# Altium footprint library footprints.PcbLib: 5 footprints
Each footprint in its own frame and in the unit in brackets; x right, y up, seen from the top. Pads: shape width x height; smd on the part's side, far side on the other; paste and mask are expansions set on the pad; w line width, h text height; cw(c..) or ccw(c..) is an arc to the next point about the centre after c.
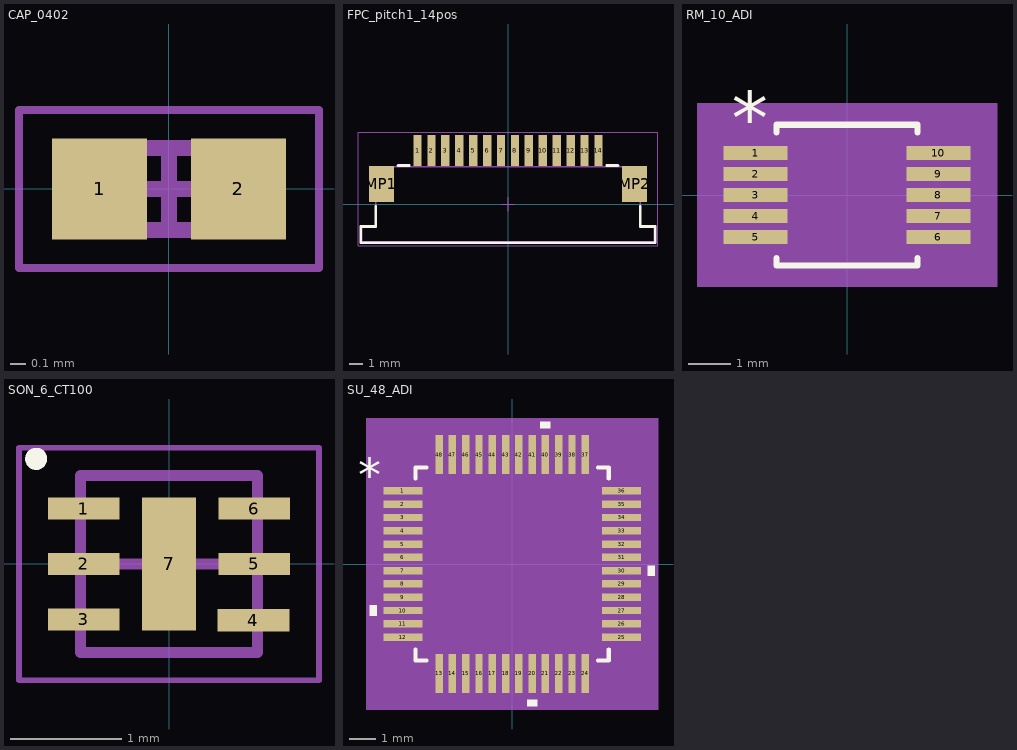
[diagram p0: the footprints below, top view; thin cyan lines are the x and y axes]

## CAP_0402 [mm] "Chip Capacitor, 2-Leads, Body 1.02x0.51mm, IPC Medium Density"
height 0.52
pads (2):
  rect 0.6x0.64 smd: 1(-0.44,0) 2(0.44,0)
Mechanical 13:
  lines w0.1: -0.515,-0.26 -0.515,0.26 0.515,0.26 0.515,-0.26 -0.515,-0.26
Mechanical 15:
  lines w0.05: -0.95,-0.5 -0.95,0.5 0.95,0.5 0.95,-0.5 -0.95,-0.5
  lines w0.1: -0.26,0 0.26,0 ; 0,-0.26 0,0.26
3D body "0402 cap.STEP": height 0.52, standoff 0, extent -0.5,-0.262 0.5,0.262

## FPC_pitch1_14pos [mm]
height 3.15
pads (16):
  rect 0.6x2.2 smd: 1(-6.5,3.85) 2(-5.5,3.85) 3(-4.5,3.85) 4(-3.5,3.85) 5(-2.5,3.85) 6(-1.5,3.85) 7(-0.5,3.85) 8(0.5,3.85) 9(1.5,3.85) 10(2.5,3.85) 11(3.5,3.85) 12(4.5,3.85) 13(5.5,3.85) 14(6.5,3.85)
  rect 1.8x2.6 smd: MP1(-9.1,1.45) MP2(9.1,1.45)
Top Overlay:
  lines w0.2: -9.5,-0.15 -9.5,-1.6 -10.575,-1.6 -10.575,-2.775 10.575,-2.775 10.575,-1.6 9.5,-1.6 9.5,-0.15 ; -7.9,2.775 -7.1,2.775 ; 7.1,2.775 7.9,2.775
Mechanical 13:
  lines w0.1: -10.5,-2.7 10.5,-2.7 10.5,-1.6 9.5,-1.6 9.5,2.7 -9.5,2.7 -9.5,-1.6 -10.5,-1.6 -10.5,-2.7
Mechanical 15:
  lines w0.05: -0.5,0 0.5,0 ; 0,-0.5 0,0.5 ; -10.775,-2.975 -10.775,5.15 10.775,5.15 10.775,-2.975 -10.775,-2.975
3D body "68611414122.stp": height 3.02, standoff 0.02, extent -10.5,-2.7 10.5,4.4

## RM_10_ADI [mil]
pads (10):
  rect 60x13 smd paste+0 mask+0: 1(-85.5,39.37) 2(-85.5,19.68) 3(-85.5,0) 4(-85.5,-19.68) 5(-85.5,-39.37) 6(85.5,-39.37) 7(85.5,-19.68) 8(85.5,0) 9(85.5,19.68) 10(85.5,39.37)
Top Overlay:
  lines w6: -66,-58.97 -66,-66 66,-66 66,-58.97 ; -66,58.97 -66,66 66,66 66,58.97
  text "*" at -108,47.37 h50
Mechanical 5:
  region: 140.5,-86 -140.5,-86 -140.5,86 140.5,86
Mechanical 13:
  lines w0: -12,61 ccw(c0,61) 12,61
  lines w1: -101.5,-45.87 -61,-45.87 -61,-32.87 -101.5,-32.87 -101.5,-45.87 ; -101.5,-26.18 -61,-26.18 -61,-13.19 -101.5,-13.19 -101.5,-26.18 ; -101.5,-6.5 -61,-6.5 -61,6.5 -101.5,6.5 -101.5,-6.5 ; -101.5,13.19 -61,13.19 -61,26.18 -101.5,26.18 -101.5,13.19 ; -101.5,32.87 -61,32.87 -61,45.87 -101.5,45.87 -101.5,32.87 ; -61,-61 -61,61 61,61 61,-61 -61,-61 ; 61,-45.87 101.5,-45.87 101.5,-32.87 61,-32.87 61,-45.87 ; 61,-26.18 101.5,-26.18 101.5,-13.19 61,-13.19 61,-26.18 ; 61,-6.5 101.5,-6.5 101.5,6.5 61,6.5 61,-6.5 ; 61,13.19 101.5,13.19 101.5,26.18 61,26.18 61,13.19 ; 61,32.87 101.5,32.87 101.5,45.87 61,45.87 61,32.87
  text "*" at -58.5,8 h50
Mechanical 15:
  region: -71,-55.87 -125.5,-55.87 -125.5,55.87 -71,55.87 -71,71 71,71 71,55.87 125.5,55.87 125.5,-55.87 71,-55.87 71,-71 -71,-71
  lines w6: -125.5,-55.87 -71,-55.87 -71,-71 71,-71 71,-55.87 125.5,-55.87 125.5,55.87 71,55.87 71,71 -71,71 -71,55.87 -125.5,55.87 -125.5,-55.87
3D body "RM_10_ADI.step": height 43.11, standoff 0, extent -101.5,-60.98 101.5,60.98

## SON_6_CT100 [mm] "SON, 6-Leads, Body 1.50x1.50mm, Pitch 0.50mm, Thermal Pad 1.20x0.49mm, IPC Medium Density"
height 0.5
pads (7):
  rect 0.65x0.2 smd mask+0.076: 1(-0.77,0.5) 2(-0.77,0) 3(-0.77,-0.5) 4(0.762,-0.508) 5(0.77,0) 6(0.77,0.5)
  rect 0.49x1.2 smd mask+0.076: 7(0,0)
Top Overlay:
  circle w0.1: c-1.2,0.95 r0.05
Mechanical 13:
  lines w0.1: -0.8,-0.8 0.8,-0.8 0.8,0.8 -0.8,0.8 -0.8,-0.8
Mechanical 15:
  lines w0.05: -1.355,-1.05 1.355,-1.05 1.355,1.05 -1.355,1.05 -1.355,-1.05
  lines w0.1: -0.5,0 0.5,0 ; 0,-0.5 0,0.5
3D body: height 0.5, standoff 0.05, extent -0.8,-0.8 0.8,0.8

## SU_48_ADI [mil]
pads (48):
  rect 58x11 smd paste+0 mask+0: 1(-162,108.27) 2(-162,88.58) 3(-162,68.9) 4(-162,49.21) 5(-162,29.53) 6(-162,9.84) 7(-162,-9.84) 8(-162,-29.53) 9(-162,-49.21) 10(-162,-68.9) 11(-162,-88.58) 12(-162,-108.27) 25(162,-108.27) 26(162,-88.58) 27(162,-68.9) 28(162,-49.21) 29(162,-29.53) 30(162,-9.84) 31(162,9.84) 32(162,29.53) 33(162,49.21) 34(162,68.9) 35(162,88.58) 36(162,108.27)
  rect 11x58 smd paste+0 mask+0: 13(-108.27,-162) 14(-88.58,-162) 15(-68.9,-162) 16(-49.21,-162) 17(-29.53,-162) 18(-9.84,-162) 19(9.84,-162) 20(29.53,-162) 21(49.21,-162) 22(68.9,-162) 23(88.58,-162) 24(108.27,-162) 37(108.27,162) 38(88.58,162) 39(68.9,162) 40(49.21,162) 41(29.53,162) 42(9.84,162) 43(-9.84,162) 44(-29.53,162) 45(-49.21,162) 46(-68.9,162) 47(-88.58,162) 48(-108.27,162)
Top Overlay:
  region: 56.71,201 41.71,201 41.71,211 56.71,211
  region: 201,-2.34 211,-2.34 211,-17.34 201,-17.34
  region: 37.03,-201 22.03,-201 22.03,-211 37.03,-211
  region: -201,-61.4 -211,-61.4 -211,-76.4 -201,-76.4
  lines w6: -143,-126.87 -143,-143 -126.87,-143 ; -143,126.87 -143,143 -126.87,143 ; 126.87,-143 143,-143 143,-126.87 ; 126.87,143 143,143 143,126.87
  text "*" at -228.5,108.11 h50
Mechanical 5:
  region: 216,-216 -216,-216 -216,216 216,216
Mechanical 13:
  drawing of 197 lines, arcs and shapes, not listed
  text "*" at -135.5,93.11 h50
Mechanical 15:
  region: -123.77,-148 -148,-148 -148,-123.77 -201,-123.77 -201,123.77 -148,123.77 -148,148 -123.77,148 -123.77,201 123.77,201 123.77,148 148,148 148,123.77 201,123.77 201,-123.77 148,-123.77 148,-148 123.77,-148 123.77,-201 -123.77,-201
  lines w6: -201,-123.77 -201,123.77 -148,123.77 -148,148 -123.77,148 -123.77,201 123.77,201 123.77,148 148,148 148,123.77 201,123.77 201,-123.77 148,-123.77 148,-148 123.77,-148 123.77,-201 -123.77,-201 -123.77,-148 -148,-148 -148,-123.77 -201,-123.77
3D body "SU_48_ADI.step": height 47.09, standoff 0, extent -177.01,-177.01 177.01,177.01